# Altium footprint library Jump.PcbLib: 1 footprints
Each footprint in its own frame and in the unit in brackets; x right, y up, seen from the top. Pads: shape width x height; smd on the part's side, far side on the other; paste and mask are expansions set on the pad; w line width, h text height; cw(c..) or ccw(c..) is an arc to the next point about the centre after c.
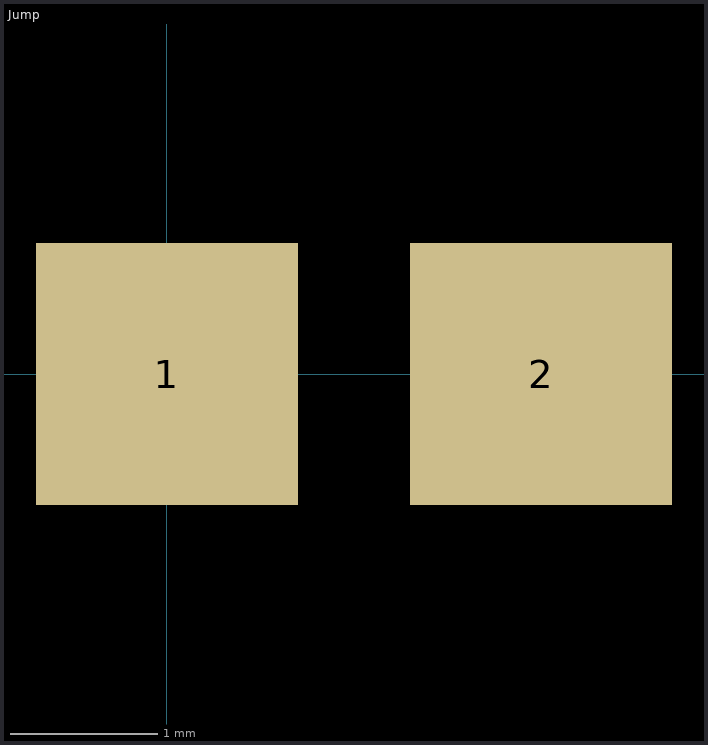
[diagram p0: the footprint, top view; thin cyan lines are the x and y axes]

## Jump [mil]
pads (2):
  rect 70x70 smd: 1(0,0) 2(100,0)
Mechanical4:
  text "0" at 0,0 h1